# EAGLE library part OSCILLATOR (library hgg)
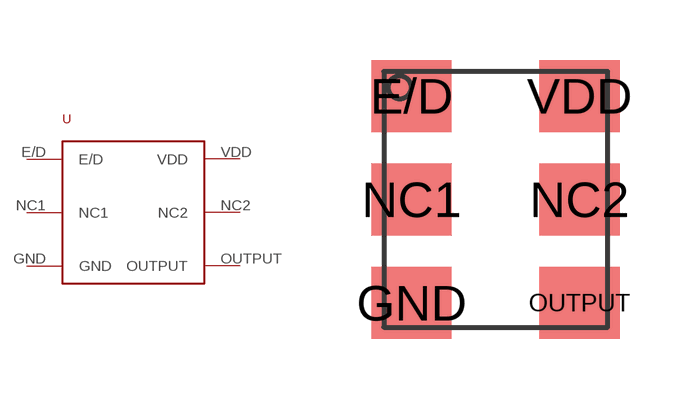
[diagram p2: symbol with the pads of OSCILLATOR; footprint OSCILLATOR]

Designator prefix -

## OSCILLATOR  [OSCILLATOR]
E/D  E/D
GND  GND
NC1  NC1
NC2  NC2
OUTPUT  OUTPUT
VDD  VDD

## Footprint OSCILLATOR (pad centres in mm)
smd 2 x 1.8: E/D -2.1,2.59; GND -2.1,-2.59; NC1 -2.1,0; NC2 2.1,0; OUTPUT 2.1,-2.59; VDD 2.1,2.59